# EAGLE library part EV5042 (library EVISION)
Low Power ISM-Transceiver
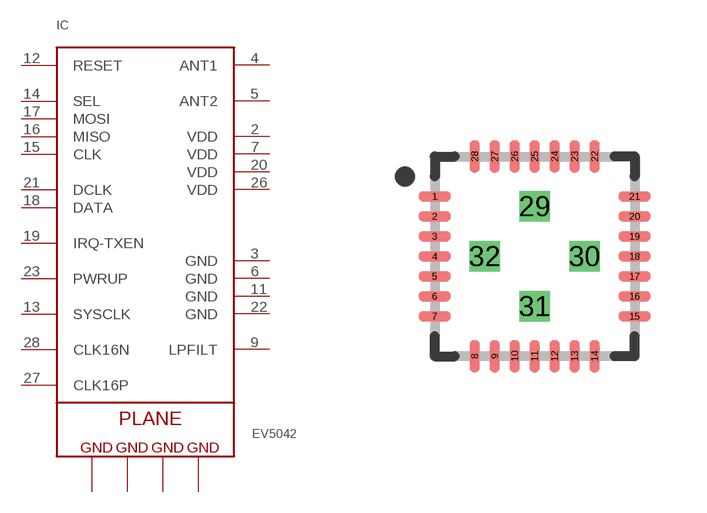
[diagram p1: symbol with the pads of OFN28; footprint OFN28]

Designator prefix IC

## EV5042  [OFN28]
1  PIN1  nc
2  VDD  pwr
3  GND  pwr
4  ANT1
5  ANT2
6  GND  pwr
7  VDD  pwr
8  PIN8  nc
9  LPFILT
10  PIN10  nc
11  GND  pwr
12  RESET  in
13  SYSCLK  out
14  SEL  in
15  CLK  in
16  MISO  out
17  MOSI  in
18  DATA
19  IRQ-TXEN
20  VDD  pwr
21  DCLK  out
22  GND  pwr
23  PWRUP  in
24  PIN24  nc
25  PIN25  nc
26  VDD  pwr
27  CLK16P
28  CLK16N
29  GND  pwr
30  GND  pwr
31  GND  pwr
32  GND  pwr

## Footprint OFN28 (pad centres in mm)
IPC7351A QFN50P500X500X95-29N
smd 0.8 x 0.25: 1 -2.5,1.5; 2 -2.5,1; 3 -2.5,0.5; 4 -2.5,0; 5 -2.5,-0.5; 6 -2.5,-1; 7 -2.5,-1.5; 15 2.5,-1.5; 16 2.5,-1; 17 2.5,-0.5; 18 2.5,0; 19 2.5,0.5; 20 2.5,1; 21 2.5,1.5
smd 0.25 x 0.8: 8 -1.5,-2.5; 9 -1,-2.5; 10 -0.5,-2.5; 11 0,-2.5; 12 0.5,-2.5; 13 1,-2.5; 14 1.5,-2.5; 22 1.5,2.5; 23 1,2.5; 24 0.5,2.5; 25 0,2.5; 26 -0.5,2.5; 27 -1,2.5; 28 -1.5,2.5
drill 0.25 square: 29 0,1.25; 30 1.25,0; 31 0,-1.25; 32 -1.25,0